# Altium schematic symbol library GU_16PIN.SchLib: 1 symbol
Pins are listed as number, name and electrical type; pins without a type are passive.

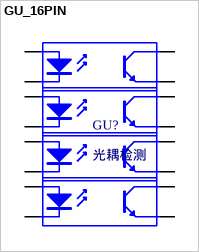
[diagram p0: symbol GU_16PIN]

## GU_16PIN
designator GU?, comment 光耦检测
16pin光耦检测
footprint 光耦座 (16PIN)
pins: 1 A "Anode", 2 K "Cathode", 3 E "Emitter", 4 C "Collector", 5 A "Anode", 6 K "Cathode", 7 E "Emitter", 8 C "Collector", 9 A "Anode", 10 K "Cathode", 11 E "Emitter", 12 C "Collector", 13 A "Anode", 14 K "Cathode", 15 E "Emitter", 16 C "Collector"